# Altium schematic symbol library CPH3123.Schlib: 1 symbol
Pins are listed as number, name and electrical type; pins without a type are passive.

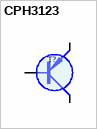
[diagram p0: symbol CPH3123]

## CPH3123
designator T?
SOT23     50V 3A 390MHz  24p(10V) (CPH3223)
pins: 1 B, 2 E (oe), 3 C (oc)
1 alternate drawing of the same symbol